# Altium schematic symbol library MCU_Microchip_AVR.SchLib: 19 symbols
Pins are listed as number, name and electrical type; pins without a type are passive.

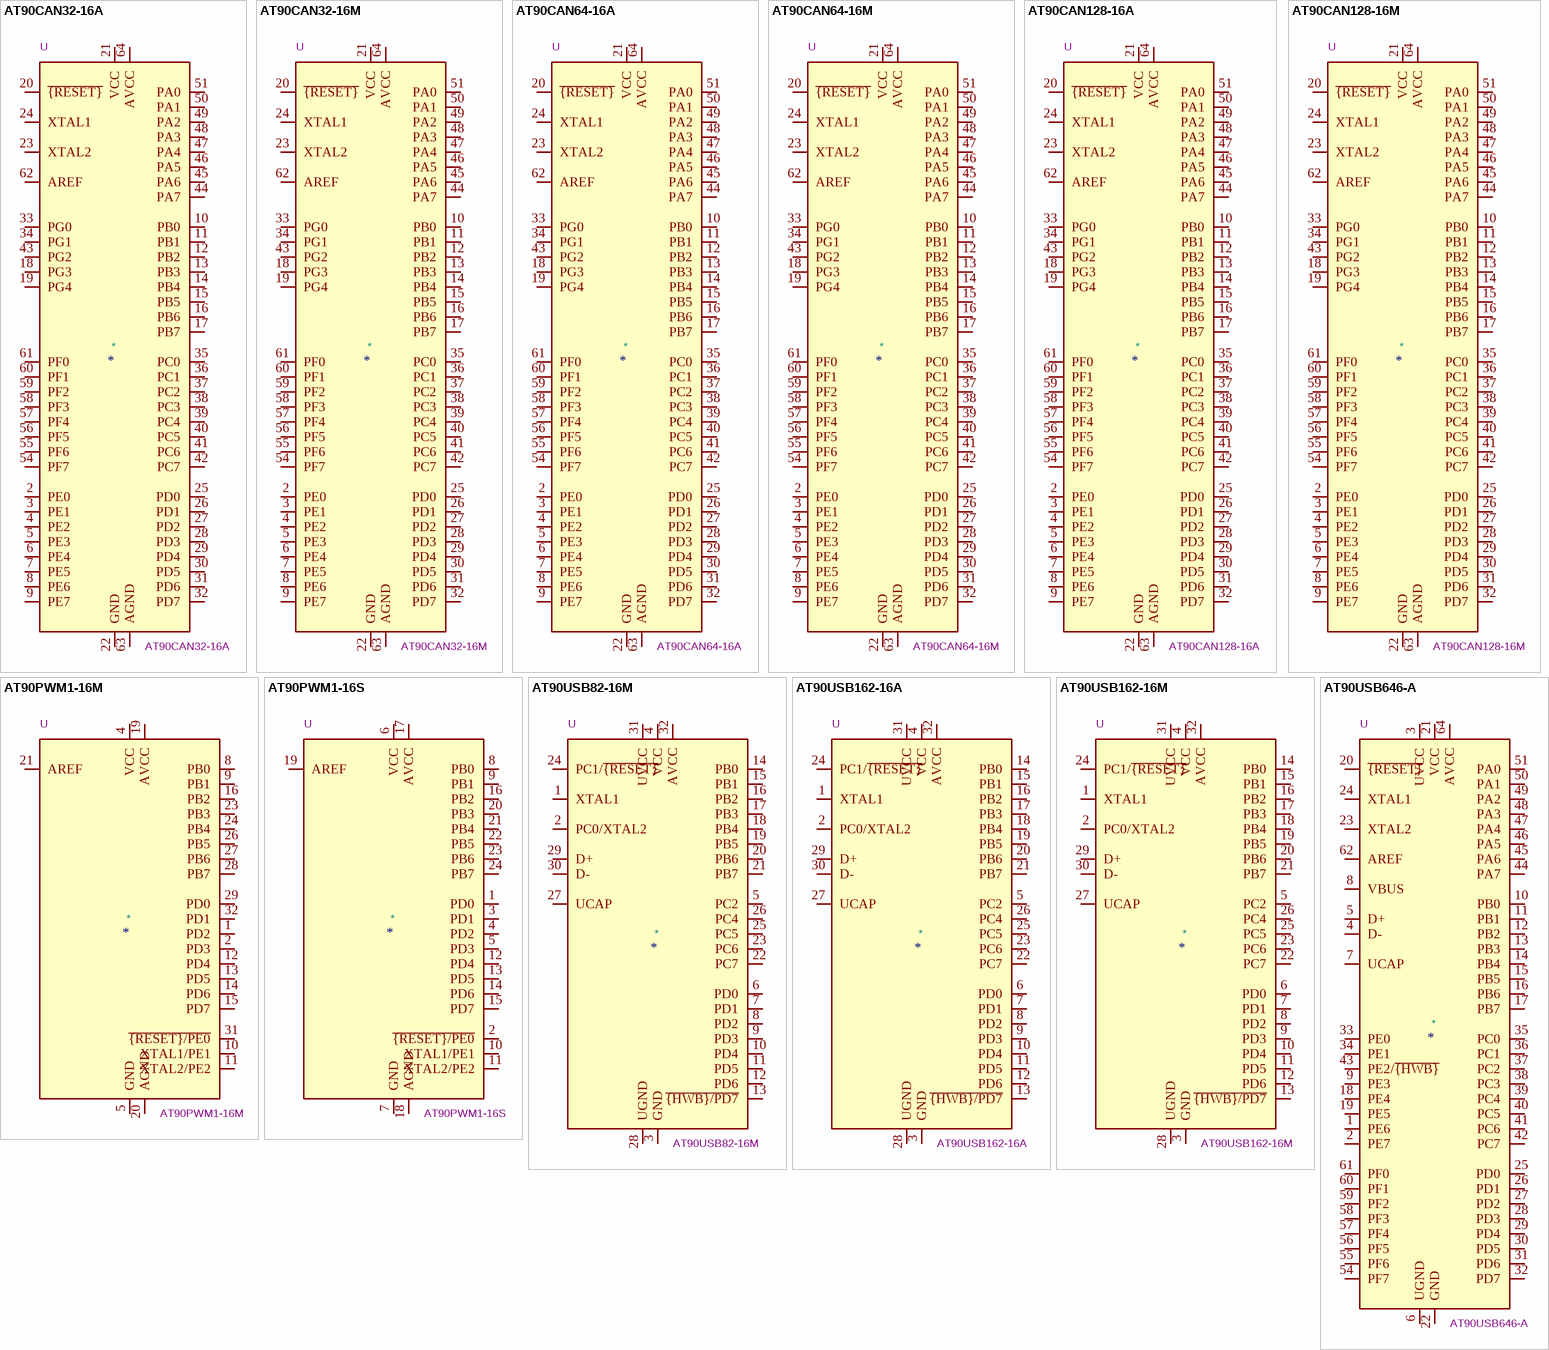
[diagram p0: symbols AT90CAN32-16A to AT90USB646-A]

## AT90CAN32-16A
designator *  value AT90CAN32-16A  Reference: U
ki_keywords: AVR 8bit Microcontroller MegaAVR; ki_description: 16MHz, 32kB Flash, 2kB SRAM, 1kB EEPROM, JTAG, CAN, TQFP-64; ki_fp_filters: TQFP*14x14mm*P0.8mm*; Footprint: Package_QFP:TQFP-64_14x14mm_P0.8mm; Datasheet: http://ww1.microchip.com/downloads/en/DeviceDoc/doc7679.pdf
pins: 1 NC hidden, 2 PE0, 3 PE1, 4 PE2, 5 PE3, 6 PE4, 7 PE5, 8 PE6, 9 PE7, 10 PB0, 11 PB1, 12 PB2, 13 PB3, 14 PB4, 15 PB5, 16 PB6, 17 PB7, 18 PG3, 19 PG4, 20 ~{{RESET}}, 21 VCC, 22 GND, 23 XTAL2, 24 XTAL1, 25 PD0, 26 PD1, 27 PD2, 28 PD3, 29 PD4, 30 PD5, 31 PD6, 32 PD7, 33 PG0, 34 PG1, 35 PC0, 36 PC1, 37 PC2, 38 PC3, 39 PC4, 40 PC5, 41 PC6, 42 PC7, 43 PG2, 44 PA7, 45 PA6, 46 PA5, 47 PA4, 48 PA3, 49 PA2, 50 PA1, 51 PA0, 52 VCC hidden, 53 GND hidden, 54 PF7, 55 PF6, 56 PF5, 57 PF4, 58 PF3, 59 PF2, 60 PF1, 61 PF0, 62 AREF, 63 AGND, 64 AVCC

## AT90CAN32-16M
designator *  value AT90CAN32-16M  Reference: U
ki_keywords: AVR 8bit Microcontroller MegaAVR; ki_description: 16MHz, 32kB Flash, 2kB SRAM, 1kB EEPROM, JTAG, CAN, QFN-64; ki_fp_filters: QFN*1EP*9x9mm*P0.5mm*; Footprint: Package_DFN_QFN:QFN-64-1EP_9x9mm_P0.5mm_EP7.5x7.5mm; Datasheet: http://ww1.microchip.com/downloads/en/DeviceDoc/doc7679.pdf
pins: 1 NC hidden, 2 PE0, 3 PE1, 4 PE2, 5 PE3, 6 PE4, 7 PE5, 8 PE6, 9 PE7, 10 PB0, 11 PB1, 12 PB2, 13 PB3, 14 PB4, 15 PB5, 16 PB6, 17 PB7, 18 PG3, 19 PG4, 20 ~{{RESET}}, 21 VCC, 22 GND, 23 XTAL2, 24 XTAL1, 25 PD0, 26 PD1, 27 PD2, 28 PD3, 29 PD4, 30 PD5, 31 PD6, 32 PD7, 33 PG0, 34 PG1, 35 PC0, 36 PC1, 37 PC2, 38 PC3, 39 PC4, 40 PC5, 41 PC6, 42 PC7, 43 PG2, 44 PA7, 45 PA6, 46 PA5, 47 PA4, 48 PA3, 49 PA2, 50 PA1, 51 PA0, 52 VCC hidden, 53 GND hidden, 54 PF7, 55 PF6, 56 PF5, 57 PF4, 58 PF3, 59 PF2, 60 PF1, 61 PF0, 62 AREF, 63 AGND, 64 AVCC, 65 GND hidden

## AT90CAN64-16A
designator *  value AT90CAN64-16A  Reference: U
ki_keywords: AVR 8bit Microcontroller MegaAVR; ki_description: 16MHz, 64kB Flash, 4kB SRAM, 2kB EEPROM, JTAG, CAN, TQFP-64; ki_fp_filters: TQFP*14x14mm*P0.8mm*; Footprint: Package_QFP:TQFP-64_14x14mm_P0.8mm; Datasheet: http://ww1.microchip.com/downloads/en/DeviceDoc/doc7679.pdf
pins: 1 NC hidden, 2 PE0, 3 PE1, 4 PE2, 5 PE3, 6 PE4, 7 PE5, 8 PE6, 9 PE7, 10 PB0, 11 PB1, 12 PB2, 13 PB3, 14 PB4, 15 PB5, 16 PB6, 17 PB7, 18 PG3, 19 PG4, 20 ~{{RESET}}, 21 VCC, 22 GND, 23 XTAL2, 24 XTAL1, 25 PD0, 26 PD1, 27 PD2, 28 PD3, 29 PD4, 30 PD5, 31 PD6, 32 PD7, 33 PG0, 34 PG1, 35 PC0, 36 PC1, 37 PC2, 38 PC3, 39 PC4, 40 PC5, 41 PC6, 42 PC7, 43 PG2, 44 PA7, 45 PA6, 46 PA5, 47 PA4, 48 PA3, 49 PA2, 50 PA1, 51 PA0, 52 VCC hidden, 53 GND hidden, 54 PF7, 55 PF6, 56 PF5, 57 PF4, 58 PF3, 59 PF2, 60 PF1, 61 PF0, 62 AREF, 63 AGND, 64 AVCC

## AT90CAN64-16M
designator *  value AT90CAN64-16M  Reference: U
ki_keywords: AVR 8bit Microcontroller MegaAVR; ki_description: 16MHz, 64kB Flash, 4kB SRAM, 2kB EEPROM, JTAG, CAN, QFN-64; ki_fp_filters: QFN*1EP*9x9mm*P0.5mm*; Footprint: Package_DFN_QFN:QFN-64-1EP_9x9mm_P0.5mm_EP7.5x7.5mm; Datasheet: http://ww1.microchip.com/downloads/en/DeviceDoc/doc7679.pdf
pins: 1 NC hidden, 2 PE0, 3 PE1, 4 PE2, 5 PE3, 6 PE4, 7 PE5, 8 PE6, 9 PE7, 10 PB0, 11 PB1, 12 PB2, 13 PB3, 14 PB4, 15 PB5, 16 PB6, 17 PB7, 18 PG3, 19 PG4, 20 ~{{RESET}}, 21 VCC, 22 GND, 23 XTAL2, 24 XTAL1, 25 PD0, 26 PD1, 27 PD2, 28 PD3, 29 PD4, 30 PD5, 31 PD6, 32 PD7, 33 PG0, 34 PG1, 35 PC0, 36 PC1, 37 PC2, 38 PC3, 39 PC4, 40 PC5, 41 PC6, 42 PC7, 43 PG2, 44 PA7, 45 PA6, 46 PA5, 47 PA4, 48 PA3, 49 PA2, 50 PA1, 51 PA0, 52 VCC hidden, 53 GND hidden, 54 PF7, 55 PF6, 56 PF5, 57 PF4, 58 PF3, 59 PF2, 60 PF1, 61 PF0, 62 AREF, 63 AGND, 64 AVCC, 65 GND hidden

## AT90CAN128-16A
designator *  value AT90CAN128-16A  Reference: U
ki_keywords: AVR 8bit Microcontroller MegaAVR; ki_description: 16MHz, 128kB Flash, 4kB SRAM, 4kB EEPROM, JTAG, CAN, TQFP-64; ki_fp_filters: TQFP*14x14mm*P0.8mm*; Footprint: Package_QFP:TQFP-64_14x14mm_P0.8mm; Datasheet: http://ww1.microchip.com/downloads/en/DeviceDoc/doc7679.pdf
pins: 1 NC hidden, 2 PE0, 3 PE1, 4 PE2, 5 PE3, 6 PE4, 7 PE5, 8 PE6, 9 PE7, 10 PB0, 11 PB1, 12 PB2, 13 PB3, 14 PB4, 15 PB5, 16 PB6, 17 PB7, 18 PG3, 19 PG4, 20 ~{{RESET}}, 21 VCC, 22 GND, 23 XTAL2, 24 XTAL1, 25 PD0, 26 PD1, 27 PD2, 28 PD3, 29 PD4, 30 PD5, 31 PD6, 32 PD7, 33 PG0, 34 PG1, 35 PC0, 36 PC1, 37 PC2, 38 PC3, 39 PC4, 40 PC5, 41 PC6, 42 PC7, 43 PG2, 44 PA7, 45 PA6, 46 PA5, 47 PA4, 48 PA3, 49 PA2, 50 PA1, 51 PA0, 52 VCC hidden, 53 GND hidden, 54 PF7, 55 PF6, 56 PF5, 57 PF4, 58 PF3, 59 PF2, 60 PF1, 61 PF0, 62 AREF, 63 AGND, 64 AVCC

## AT90CAN128-16M
designator *  value AT90CAN128-16M  Reference: U
ki_keywords: AVR 8bit Microcontroller MegaAVR; ki_description: 16MHz, 128kB Flash, 4kB SRAM, 4kB EEPROM, JTAG, CAN, QFN-64; ki_fp_filters: QFN*1EP*9x9mm*P0.5mm*; Footprint: Package_DFN_QFN:QFN-64-1EP_9x9mm_P0.5mm_EP7.5x7.5mm; Datasheet: http://ww1.microchip.com/downloads/en/DeviceDoc/doc7679.pdf
pins: 1 NC hidden, 2 PE0, 3 PE1, 4 PE2, 5 PE3, 6 PE4, 7 PE5, 8 PE6, 9 PE7, 10 PB0, 11 PB1, 12 PB2, 13 PB3, 14 PB4, 15 PB5, 16 PB6, 17 PB7, 18 PG3, 19 PG4, 20 ~{{RESET}}, 21 VCC, 22 GND, 23 XTAL2, 24 XTAL1, 25 PD0, 26 PD1, 27 PD2, 28 PD3, 29 PD4, 30 PD5, 31 PD6, 32 PD7, 33 PG0, 34 PG1, 35 PC0, 36 PC1, 37 PC2, 38 PC3, 39 PC4, 40 PC5, 41 PC6, 42 PC7, 43 PG2, 44 PA7, 45 PA6, 46 PA5, 47 PA4, 48 PA3, 49 PA2, 50 PA1, 51 PA0, 52 VCC hidden, 53 GND hidden, 54 PF7, 55 PF6, 56 PF5, 57 PF4, 58 PF3, 59 PF2, 60 PF1, 61 PF0, 62 AREF, 63 AGND, 64 AVCC, 65 GND hidden

## AT90PWM1-16M
designator *  value AT90PWM1-16M  Reference: U
ki_keywords: AVR 8bit Microcontroller LightingAVR PWM; ki_description: 16MHz, 8kB Flash, 512B SRAM, 512B EEPROM, QFN-32; ki_fp_filters: QFN*1EP*7x7mm*P0.65mm*; Footprint: Package_DFN_QFN:QFN-32-1EP_7x7mm_P0.65mm_EP4.65x4.65mm; Datasheet: http://ww1.microchip.com/downloads/en/DeviceDoc/doc4378.pdf
pins: 1 PD2, 2 PD3, 3 NC hidden, 4 VCC, 5 GND, 6 NC hidden, 7 NC hidden, 8 PB0, 9 PB1, 10 XTAL1/PE1, 11 XTAL2/PE2, 12 PD4, 13 PD5, 14 PD6, 15 PD7, 16 PB2, 17 NC hidden, 18 NC hidden, 19 AVCC, 20 AGND, 21 AREF, 22 NC hidden, 23 PB3, 24 PB4, 25 NC hidden, 26 PB5, 27 PB6, 28 PB7, 29 PD0, 30 NC hidden, 31 ~{{RESET}/PE0}, 32 PD1, 33 GND hidden

## AT90PWM1-16S
designator *  value AT90PWM1-16S  Reference: U
ki_keywords: AVR 8bit Microcontroller LightingAVR PWM; ki_description: 16MHz, 8kB Flash, 512B SRAM, 512B EEPROM, SOIC-24; ki_fp_filters: SOIC*7.5x15.4mm*P1.27mm*; Footprint: Package_SO:SOIC-24W_7.5x15.4mm_P1.27mm; Datasheet: http://ww1.microchip.com/downloads/en/DeviceDoc/doc4378.pdf
pins: 1 PD0, 2 ~{{RESET}/PE0}, 3 PD1, 4 PD2, 5 PD3, 6 VCC, 7 GND, 8 PB0, 9 PB1, 10 XTAL1/PE1, 11 XTAL2/PE2, 12 PD4, 13 PD5, 14 PD6, 15 PD7, 16 PB2, 17 AVCC, 18 AGND, 19 AREF, 20 PB3, 21 PB4, 22 PB5, 23 PB6, 24 PB7

## AT90USB82-16M
designator *  value AT90USB82-16M  Reference: U
ki_keywords: AVR 8bit Microcontroller USB; ki_description: 16MHz, 8kB Flash, 512B SRAM, 512B EEPROM, USB 2.0, QFN-32; ki_fp_filters: QFN*1EP*5x5mm*P0.5mm*; Footprint: Package_DFN_QFN:QFN-32-1EP_5x5mm_P0.5mm_EP3.6x3.6mm; Datasheet: http://ww1.microchip.com/downloads/en/DeviceDoc/doc7707.pdf
pins: 1 XTAL1, 2 PC0/XTAL2, 3 GND, 4 VCC, 5 PC2, 6 PD0, 7 PD1, 8 PD2, 9 PD3, 10 PD4, 11 PD5, 12 PD6, 13 ~{{HWB}/PD7}, 14 PB0, 15 PB1, 16 PB2, 17 PB3, 18 PB4, 19 PB5, 20 PB6, 21 PB7, 22 PC7, 23 PC6, 24 PC1/~{{RESET}}, 25 PC5, 26 PC4, 27 UCAP, 28 UGND, 29 D+, 30 D-, 31 UVCC, 32 AVCC, 33 GND hidden

## AT90USB162-16A
designator *  value AT90USB162-16A  Reference: U
ki_keywords: AVR 8bit Microcontroller USB; ki_description: 16MHz, 16kB Flash, 512B SRAM, 512B EEPROM, USB 2.0, TQFP-32; ki_fp_filters: TQFP*7x7mm*P0.8mm*; Footprint: Package_QFP:TQFP-32_7x7mm_P0.8mm; Datasheet: http://ww1.microchip.com/downloads/en/DeviceDoc/doc7707.pdf
pins: 1 XTAL1, 2 PC0/XTAL2, 3 GND, 4 VCC, 5 PC2, 6 PD0, 7 PD1, 8 PD2, 9 PD3, 10 PD4, 11 PD5, 12 PD6, 13 ~{{HWB}/PD7}, 14 PB0, 15 PB1, 16 PB2, 17 PB3, 18 PB4, 19 PB5, 20 PB6, 21 PB7, 22 PC7, 23 PC6, 24 PC1/~{{RESET}}, 25 PC5, 26 PC4, 27 UCAP, 28 UGND, 29 D+, 30 D-, 31 UVCC, 32 AVCC

## AT90USB162-16M
designator *  value AT90USB162-16M  Reference: U
ki_keywords: AVR 8bit Microcontroller USB; ki_description: 16MHz, 16kB Flash, 512B SRAM, 512B EEPROM, USB 2.0, QFN-32; ki_fp_filters: QFN*1EP*5x5mm*P0.5mm*; Footprint: Package_DFN_QFN:QFN-32-1EP_5x5mm_P0.5mm_EP3.6x3.6mm; Datasheet: http://ww1.microchip.com/downloads/en/DeviceDoc/doc7707.pdf
pins: 1 XTAL1, 2 PC0/XTAL2, 3 GND, 4 VCC, 5 PC2, 6 PD0, 7 PD1, 8 PD2, 9 PD3, 10 PD4, 11 PD5, 12 PD6, 13 ~{{HWB}/PD7}, 14 PB0, 15 PB1, 16 PB2, 17 PB3, 18 PB4, 19 PB5, 20 PB6, 21 PB7, 22 PC7, 23 PC6, 24 PC1/~{{RESET}}, 25 PC5, 26 PC4, 27 UCAP, 28 UGND, 29 D+, 30 D-, 31 UVCC, 32 AVCC, 33 GND hidden

## AT90USB646-A
designator *  value AT90USB646-A  Reference: U
ki_keywords: AVR 8bit Microcontroller USB; ki_description: 16MHz, 64kB Flash, 4kB SRAM, 2kB EEPROM, USB 2.0, TQFP-64; ki_fp_filters: TQFP*14x14mm*P0.8mm*; Footprint: Package_QFP:TQFP-64_14x14mm_P0.8mm; Datasheet: http://ww1.microchip.com/downloads/en/DeviceDoc/doc7593.pdf
pins: 1 PE6, 2 PE7, 3 UVCC, 4 D-, 5 D+, 6 UGND, 7 UCAP, 8 VBUS, 9 PE3, 10 PB0, 11 PB1, 12 PB2, 13 PB3, 14 PB4, 15 PB5, 16 PB6, 17 PB7, 18 PE4, 19 PE5, 20 ~{{RESET}}, 21 VCC, 22 GND, 23 XTAL2, 24 XTAL1, 25 PD0, 26 PD1, 27 PD2, 28 PD3, 29 PD4, 30 PD5, 31 PD6, 32 PD7, 33 PE0, 34 PE1, 35 PC0, 36 PC1, 37 PC2, 38 PC3, 39 PC4, 40 PC5, 41 PC6, 42 PC7, 43 PE2/~{{HWB}}, 44 PA7, 45 PA6, 46 PA5, 47 PA4, 48 PA3, 49 PA2, 50 PA1, 51 PA0, 52 VCC hidden, 53 GND hidden, 54 PF7, 55 PF6, 56 PF5, 57 PF4, 58 PF3, 59 PF2, 60 PF1, 61 PF0, 62 AREF, 63 GND hidden, 64 AVCC

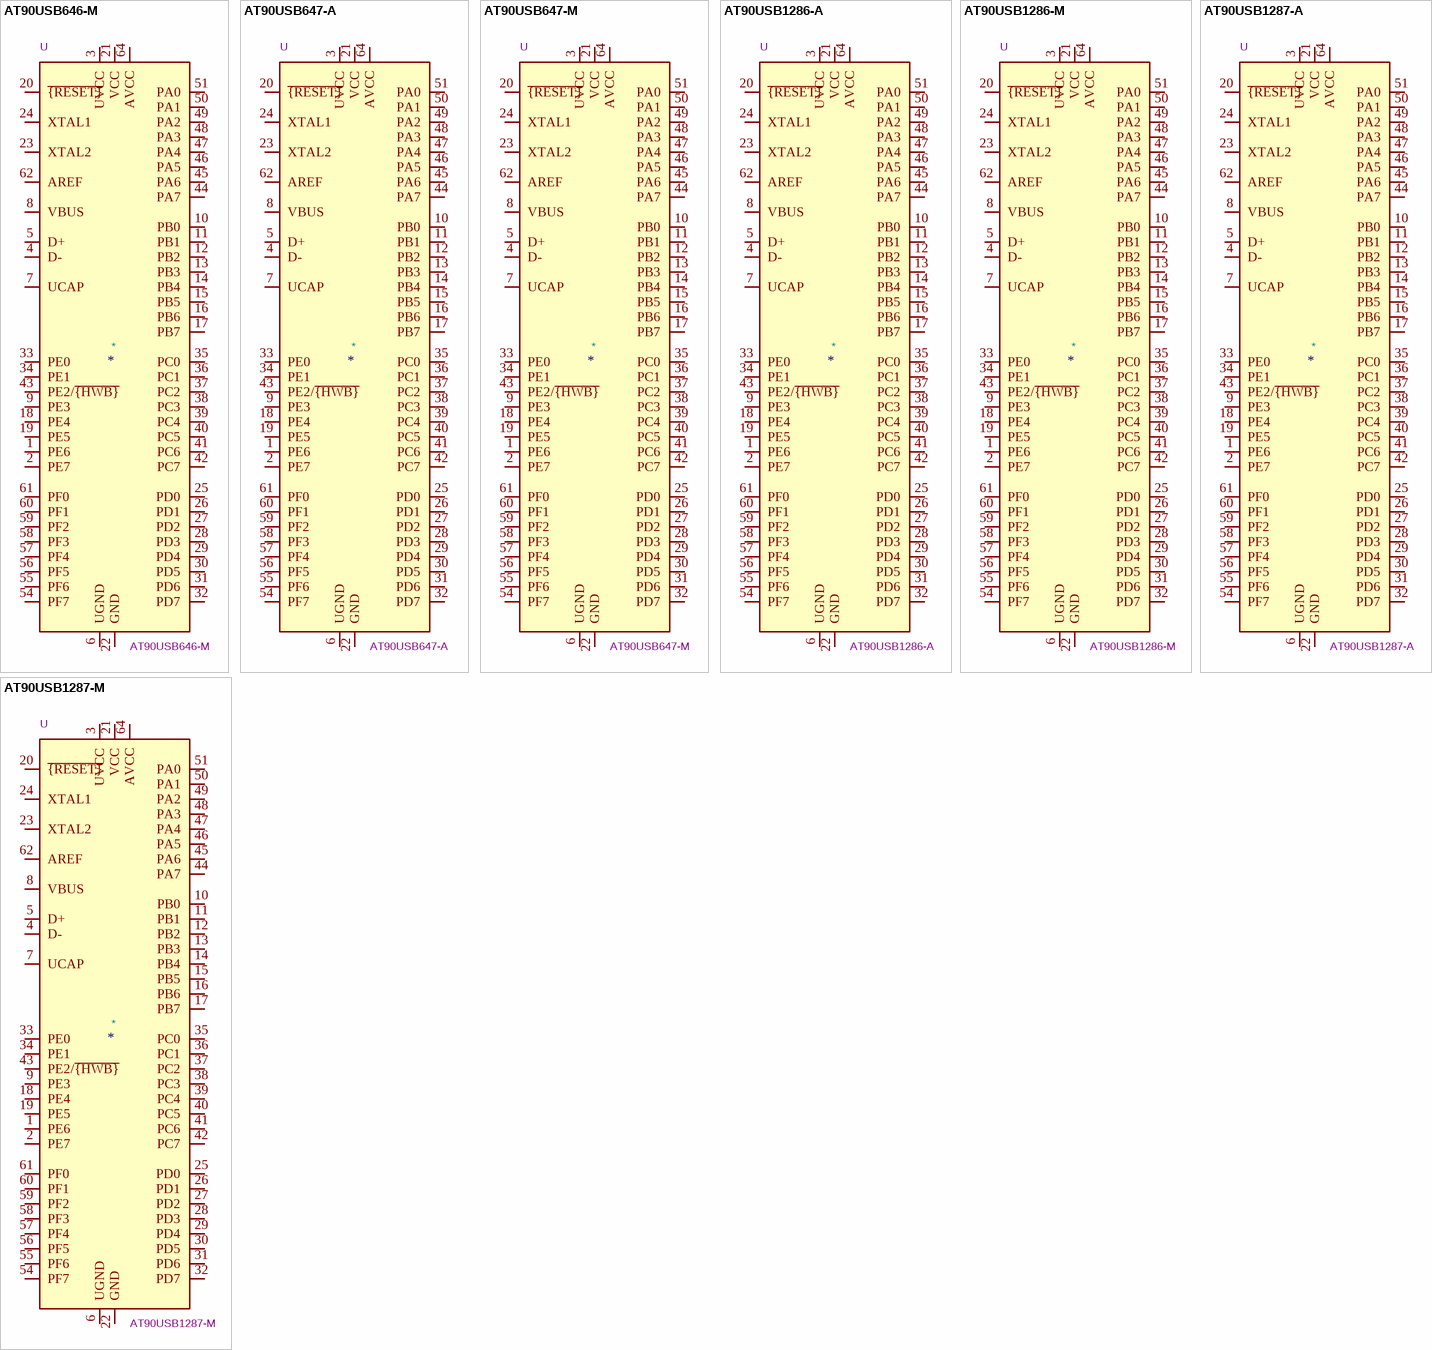
[diagram p1: symbols AT90USB646-M to AT90USB1287-M]

## AT90USB646-M
designator *  value AT90USB646-M  Reference: U
ki_keywords: AVR 8bit Microcontroller USB; ki_description: 16MHz, 64kB Flash, 4kB SRAM, 2kB EEPROM, USB 2.0, QFN-64; ki_fp_filters: QFN*1EP*9x9mm*P0.5mm*; Footprint: Package_DFN_QFN:QFN-64-1EP_9x9mm_P0.5mm_EP7.5x7.5mm; Datasheet: http://ww1.microchip.com/downloads/en/DeviceDoc/doc7593.pdf
pins: 1 PE6, 2 PE7, 3 UVCC, 4 D-, 5 D+, 6 UGND, 7 UCAP, 8 VBUS, 9 PE3, 10 PB0, 11 PB1, 12 PB2, 13 PB3, 14 PB4, 15 PB5, 16 PB6, 17 PB7, 18 PE4, 19 PE5, 20 ~{{RESET}}, 21 VCC, 22 GND, 23 XTAL2, 24 XTAL1, 25 PD0, 26 PD1, 27 PD2, 28 PD3, 29 PD4, 30 PD5, 31 PD6, 32 PD7, 33 PE0, 34 PE1, 35 PC0, 36 PC1, 37 PC2, 38 PC3, 39 PC4, 40 PC5, 41 PC6, 42 PC7, 43 PE2/~{{HWB}}, 44 PA7, 45 PA6, 46 PA5, 47 PA4, 48 PA3, 49 PA2, 50 PA1, 51 PA0, 52 VCC hidden, 53 GND hidden, 54 PF7, 55 PF6, 56 PF5, 57 PF4, 58 PF3, 59 PF2, 60 PF1, 61 PF0, 62 AREF, 63 GND hidden, 64 AVCC, 65 GND hidden

## AT90USB647-A
designator *  value AT90USB647-A  Reference: U
ki_keywords: AVR 8bit Microcontroller USB; ki_description: 16MHz, 64kB Flash, 4kB SRAM, 2kB EEPROM, USB 2.0 OTG, TQFP-64; ki_fp_filters: TQFP*14x14mm*P0.8mm*; Footprint: Package_QFP:TQFP-64_14x14mm_P0.8mm; Datasheet: http://ww1.microchip.com/downloads/en/DeviceDoc/doc7593.pdf
pins: 1 PE6, 2 PE7, 3 UVCC, 4 D-, 5 D+, 6 UGND, 7 UCAP, 8 VBUS, 9 PE3, 10 PB0, 11 PB1, 12 PB2, 13 PB3, 14 PB4, 15 PB5, 16 PB6, 17 PB7, 18 PE4, 19 PE5, 20 ~{{RESET}}, 21 VCC, 22 GND, 23 XTAL2, 24 XTAL1, 25 PD0, 26 PD1, 27 PD2, 28 PD3, 29 PD4, 30 PD5, 31 PD6, 32 PD7, 33 PE0, 34 PE1, 35 PC0, 36 PC1, 37 PC2, 38 PC3, 39 PC4, 40 PC5, 41 PC6, 42 PC7, 43 PE2/~{{HWB}}, 44 PA7, 45 PA6, 46 PA5, 47 PA4, 48 PA3, 49 PA2, 50 PA1, 51 PA0, 52 VCC hidden, 53 GND hidden, 54 PF7, 55 PF6, 56 PF5, 57 PF4, 58 PF3, 59 PF2, 60 PF1, 61 PF0, 62 AREF, 63 GND hidden, 64 AVCC

## AT90USB647-M
designator *  value AT90USB647-M  Reference: U
ki_keywords: AVR 8bit Microcontroller USB; ki_description: 16MHz, 64kB Flash, 4kB SRAM, 2kB EEPROM, USB 2.0 OTG, QFN-64; ki_fp_filters: QFN*1EP*9x9mm*P0.5mm*; Footprint: Package_DFN_QFN:QFN-64-1EP_9x9mm_P0.5mm_EP7.5x7.5mm; Datasheet: http://ww1.microchip.com/downloads/en/DeviceDoc/doc7593.pdf
pins: 1 PE6, 2 PE7, 3 UVCC, 4 D-, 5 D+, 6 UGND, 7 UCAP, 8 VBUS, 9 PE3, 10 PB0, 11 PB1, 12 PB2, 13 PB3, 14 PB4, 15 PB5, 16 PB6, 17 PB7, 18 PE4, 19 PE5, 20 ~{{RESET}}, 21 VCC, 22 GND, 23 XTAL2, 24 XTAL1, 25 PD0, 26 PD1, 27 PD2, 28 PD3, 29 PD4, 30 PD5, 31 PD6, 32 PD7, 33 PE0, 34 PE1, 35 PC0, 36 PC1, 37 PC2, 38 PC3, 39 PC4, 40 PC5, 41 PC6, 42 PC7, 43 PE2/~{{HWB}}, 44 PA7, 45 PA6, 46 PA5, 47 PA4, 48 PA3, 49 PA2, 50 PA1, 51 PA0, 52 VCC hidden, 53 GND hidden, 54 PF7, 55 PF6, 56 PF5, 57 PF4, 58 PF3, 59 PF2, 60 PF1, 61 PF0, 62 AREF, 63 GND hidden, 64 AVCC, 65 GND hidden

## AT90USB1286-A
designator *  value AT90USB1286-A  Reference: U
ki_keywords: AVR 8bit Microcontroller USB; ki_description: 16MHz, 128kB Flash, 8kB SRAM, 4kB EEPROM, USB 2.0, TQFP-64; ki_fp_filters: TQFP*14x14mm*P0.8mm*; Footprint: Package_QFP:TQFP-64_14x14mm_P0.8mm; Datasheet: http://ww1.microchip.com/downloads/en/DeviceDoc/doc7593.pdf
pins: 1 PE6, 2 PE7, 3 UVCC, 4 D-, 5 D+, 6 UGND, 7 UCAP, 8 VBUS, 9 PE3, 10 PB0, 11 PB1, 12 PB2, 13 PB3, 14 PB4, 15 PB5, 16 PB6, 17 PB7, 18 PE4, 19 PE5, 20 ~{{RESET}}, 21 VCC, 22 GND, 23 XTAL2, 24 XTAL1, 25 PD0, 26 PD1, 27 PD2, 28 PD3, 29 PD4, 30 PD5, 31 PD6, 32 PD7, 33 PE0, 34 PE1, 35 PC0, 36 PC1, 37 PC2, 38 PC3, 39 PC4, 40 PC5, 41 PC6, 42 PC7, 43 PE2/~{{HWB}}, 44 PA7, 45 PA6, 46 PA5, 47 PA4, 48 PA3, 49 PA2, 50 PA1, 51 PA0, 52 VCC hidden, 53 GND hidden, 54 PF7, 55 PF6, 56 PF5, 57 PF4, 58 PF3, 59 PF2, 60 PF1, 61 PF0, 62 AREF, 63 GND hidden, 64 AVCC

## AT90USB1286-M
designator *  value AT90USB1286-M  Reference: U
ki_keywords: AVR 8bit Microcontroller USB; ki_description: 16MHz, 128kB Flash, 8kB SRAM, 4kB EEPROM, USB 2.0, QFN-64; ki_fp_filters: QFN*1EP*9x9mm*P0.5mm*; Footprint: Package_DFN_QFN:QFN-64-1EP_9x9mm_P0.5mm_EP7.5x7.5mm; Datasheet: http://ww1.microchip.com/downloads/en/DeviceDoc/doc7593.pdf
pins: 1 PE6, 2 PE7, 3 UVCC, 4 D-, 5 D+, 6 UGND, 7 UCAP, 8 VBUS, 9 PE3, 10 PB0, 11 PB1, 12 PB2, 13 PB3, 14 PB4, 15 PB5, 16 PB6, 17 PB7, 18 PE4, 19 PE5, 20 ~{{RESET}}, 21 VCC, 22 GND, 23 XTAL2, 24 XTAL1, 25 PD0, 26 PD1, 27 PD2, 28 PD3, 29 PD4, 30 PD5, 31 PD6, 32 PD7, 33 PE0, 34 PE1, 35 PC0, 36 PC1, 37 PC2, 38 PC3, 39 PC4, 40 PC5, 41 PC6, 42 PC7, 43 PE2/~{{HWB}}, 44 PA7, 45 PA6, 46 PA5, 47 PA4, 48 PA3, 49 PA2, 50 PA1, 51 PA0, 52 VCC hidden, 53 GND hidden, 54 PF7, 55 PF6, 56 PF5, 57 PF4, 58 PF3, 59 PF2, 60 PF1, 61 PF0, 62 AREF, 63 GND hidden, 64 AVCC, 65 GND hidden

## AT90USB1287-A
designator *  value AT90USB1287-A  Reference: U
ki_keywords: AVR 8bit Microcontroller USB; ki_description: 16MHz, 128kB Flash, 8kB SRAM, 4kB EEPROM, USB 2.0 OTG, TQFP-64; ki_fp_filters: TQFP*14x14mm*P0.8mm*; Footprint: Package_QFP:TQFP-64_14x14mm_P0.8mm; Datasheet: http://ww1.microchip.com/downloads/en/DeviceDoc/doc7593.pdf
pins: 1 PE6, 2 PE7, 3 UVCC, 4 D-, 5 D+, 6 UGND, 7 UCAP, 8 VBUS, 9 PE3, 10 PB0, 11 PB1, 12 PB2, 13 PB3, 14 PB4, 15 PB5, 16 PB6, 17 PB7, 18 PE4, 19 PE5, 20 ~{{RESET}}, 21 VCC, 22 GND, 23 XTAL2, 24 XTAL1, 25 PD0, 26 PD1, 27 PD2, 28 PD3, 29 PD4, 30 PD5, 31 PD6, 32 PD7, 33 PE0, 34 PE1, 35 PC0, 36 PC1, 37 PC2, 38 PC3, 39 PC4, 40 PC5, 41 PC6, 42 PC7, 43 PE2/~{{HWB}}, 44 PA7, 45 PA6, 46 PA5, 47 PA4, 48 PA3, 49 PA2, 50 PA1, 51 PA0, 52 VCC hidden, 53 GND hidden, 54 PF7, 55 PF6, 56 PF5, 57 PF4, 58 PF3, 59 PF2, 60 PF1, 61 PF0, 62 AREF, 63 GND hidden, 64 AVCC

## AT90USB1287-M
designator *  value AT90USB1287-M  Reference: U
ki_keywords: AVR 8bit Microcontroller USB; ki_description: 16MHz, 128kB Flash, 8kB SRAM, 4kB EEPROM, USB 2.0 OTG, QFN-64; ki_fp_filters: QFN*1EP*9x9mm*P0.5mm*; Footprint: Package_DFN_QFN:QFN-64-1EP_9x9mm_P0.5mm_EP7.5x7.5mm; Datasheet: http://ww1.microchip.com/downloads/en/DeviceDoc/doc7593.pdf
pins: 1 PE6, 2 PE7, 3 UVCC, 4 D-, 5 D+, 6 UGND, 7 UCAP, 8 VBUS, 9 PE3, 10 PB0, 11 PB1, 12 PB2, 13 PB3, 14 PB4, 15 PB5, 16 PB6, 17 PB7, 18 PE4, 19 PE5, 20 ~{{RESET}}, 21 VCC, 22 GND, 23 XTAL2, 24 XTAL1, 25 PD0, 26 PD1, 27 PD2, 28 PD3, 29 PD4, 30 PD5, 31 PD6, 32 PD7, 33 PE0, 34 PE1, 35 PC0, 36 PC1, 37 PC2, 38 PC3, 39 PC4, 40 PC5, 41 PC6, 42 PC7, 43 PE2/~{{HWB}}, 44 PA7, 45 PA6, 46 PA5, 47 PA4, 48 PA3, 49 PA2, 50 PA1, 51 PA0, 52 VCC hidden, 53 GND hidden, 54 PF7, 55 PF6, 56 PF5, 57 PF4, 58 PF3, 59 PF2, 60 PF1, 61 PF0, 62 AREF, 63 GND hidden, 64 AVCC, 65 GND hidden